# Altium schematic symbol library Y 液晶屏.SCHLIB: 2 symbols
Pins are listed as number, name and electrical type; pins without a type are passive.

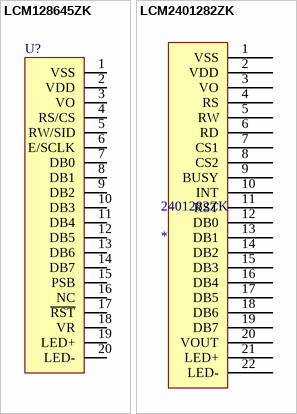
[diagram p0: symbols LCM128645ZK to LCM2401282ZK]

## LCM128645ZK
designator U?
液晶屏12864
footprint LCM128645ZK (12864液晶,北京青云创新)
pins: 1 VSS, 2 VDD, 3 VO, 4 RS/CS, 5 RW/SID, 6 E/SCLK, 7 DB0, 8 DB1, 9 DB2, 10 DB3, 11 DB4, 12 DB5, 13 DB6, 14 DB7, 15 PSB, 16 NC, 17 ~{RST}, 18 VR, 19 LED+, 20 LED-

## LCM2401282ZK
designator 2401282ZK
pins: 1 VSS, 2 VDD, 3 VO, 4 RS, 5 RW, 6 RD, 7 CS1, 8 CS2, 9 BUSY, 10 INT, 11 RST, 12 DB0, 13 DB1, 14 DB2, 15 DB3, 16 DB4, 17 DB5, 18 DB6, 19 DB7, 20 VOUT, 21 LED+, 22 LED-